# Altium footprint library FCI 62684-501100ALF.PcbLib: 1 footprints
Each footprint in its own frame and in the unit in brackets; x right, y up, seen from the top. Pads: shape width x height; smd on the part's side, far side on the other; paste and mask are expansions set on the pad; w line width, h text height; cw(c..) or ccw(c..) is an arc to the next point about the centre after c.
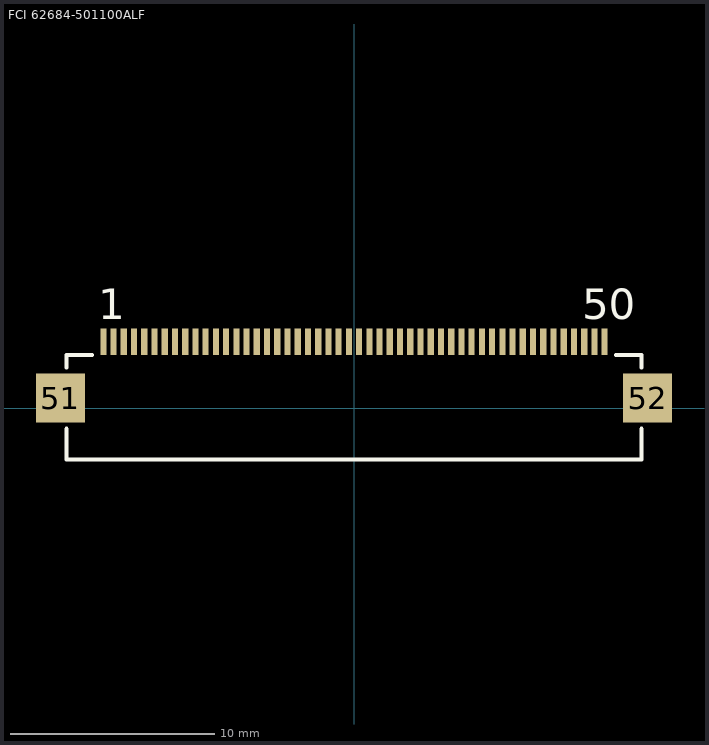
[diagram p0: the footprint, top view; thin cyan lines are the x and y axes]

## FCI 62684-501100ALF [mm] "Connector; FH12 Series; 50 Position; 0.5mm Spaced Bottom Contact"
height 2
pads (52):
  rect 0.3x1.3 smd: 1(-12.25,3.25) 2(-11.75,3.25) 3(-11.25,3.25) 4(-10.75,3.25) 5(-10.25,3.25) 6(-9.75,3.25) 7(-9.25,3.25) 8(-8.75,3.25) 9(-8.25,3.25) 10(-7.75,3.25) 11(-7.25,3.25) 12(-6.75,3.25) 13(-6.25,3.25) 14(-5.75,3.25) 15(-5.25,3.25) 16(-4.75,3.25) 17(-4.25,3.25) 18(-3.75,3.25) 19(-3.25,3.25) 20(-2.75,3.25) 21(-2.25,3.25) 22(-1.75,3.25) 23(-1.25,3.25) 24(-0.75,3.25) 25(-0.25,3.25) 26(0.25,3.25) 27(0.75,3.25) 28(1.25,3.25) 29(1.75,3.25) 30(2.25,3.25) 31(2.75,3.25) 32(3.25,3.25) 33(3.75,3.25) 34(4.25,3.25) 35(4.75,3.25) 36(5.25,3.25) 37(5.75,3.25) 38(6.25,3.25) 39(6.75,3.25) 40(7.25,3.25) 41(7.75,3.25) 42(8.25,3.25) 43(8.75,3.25) 44(9.25,3.25) 45(9.75,3.25) 46(10.25,3.25) 47(10.75,3.25) 48(11.25,3.25) 49(11.75,3.25) 50(12.25,3.25)
  rect 2.4x2.4 smd: 51(-14.35,0.5) 52(14.35,0.5)
TopOverlay:
  lines w0.2: -14.05,-1 -14.05,-2.5 14.05,-2.5 14.05,-1 ; -14.05,2 -14.05,2.6 -12.8,2.6 ; 12.8,2.6 14.05,2.6 14.05,2
  text "1" at -12.5,4.35 h1.5
  text "50" at 11.15,4.35 h1.5
3D body: height 3.01, standoff 0.95, extent -15.25,-2.115 15.25,3.525